# EAGLE library part 1770898 (library 1770898)
Phoenix Contact COMBICON PTSM Series 2.5mm Pitch Straight PCB Terminal Block with Spring Cage Termination, Through Hole Source: Datasheet <http://uk.rs-online.com/web/p/products/7124579>
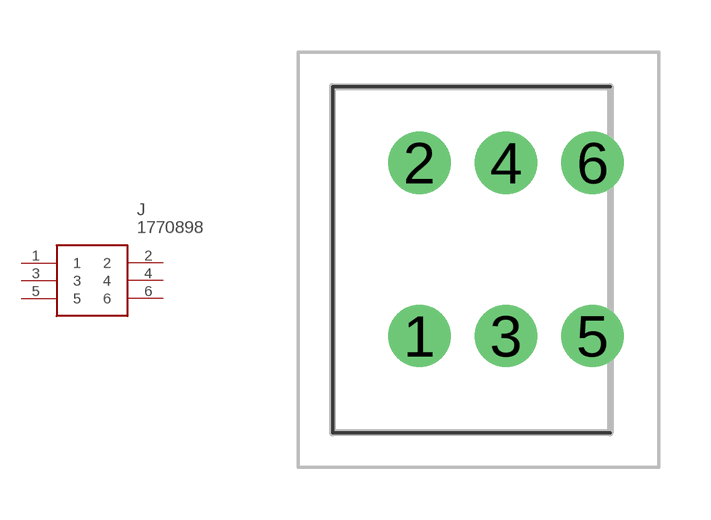
[diagram p0: symbol with the pads of 1770898; footprint 1770898]

Designator prefix J

## 1770898 (Allied_Number: 70170416; Description: Phoenix Contact COMBICON PTSM Series 2.5mm Pitch Straight PCB Terminal Block with Spring Cage Termination, Through Hole; Height: 5.1mm; Manufacturer_Name: Phoenix Contact; Manufacturer_Part_Number: 1770898; RS_Part_Number: 7124579; RS_Price-Stock: http://uk.rs-online.com/web/p/products/7124579)  [1770898]
1  1
2  2
3  3
4  4
5  5
6  6

## Footprint 1770898 (pad centres in mm)
1770898-2
drill 1.2 pad 1.8: 1 0,0; 2 0,5; 3 2.5,0; 4 2.5,5; 5 5,0; 6 5,5